# Altium schematic symbol library AT42QT2120-XU.SchLib: 2 symbols
Pins are listed as number, name and electrical type; pins without a type are passive.

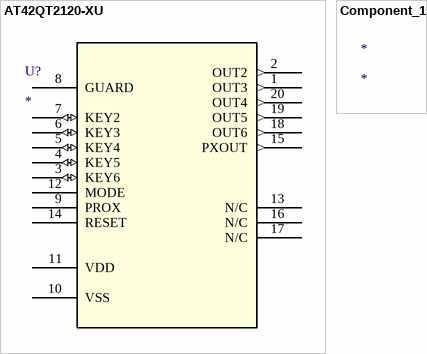
[diagram p0: symbols AT42QT2120-XU to Component_1]

## AT42QT2120-XU
designator U?
No Description Available; Mfr_Name: Microchip; RefDes: RefDes; Type: Type
footprint TSSOP20_MC_MCH
pins: 1 OUT3 (out), 2 OUT2 (out), 3 KEY6 (io), 4 KEY5 (io), 5 KEY4 (io), 6 KEY3 (io), 7 KEY2 (io), 8 GUARD, 9 PROX, 10 VSS (power), 11 VDD (power), 12 MODE, 13 N/C, 14 RESET, 15 PXOUT (out), 16 N/C, 17 N/C, 18 OUT6 (out), 19 OUT5 (out), 20 OUT4 (out)

## Component_1
designator *